# Altium footprint library PcbLib3.PcbLib: 6 footprints
Each footprint in its own frame and in the unit in brackets; x right, y up, seen from the top. Pads: shape width x height; smd on the part's side, far side on the other; paste and mask are expansions set on the pad; w line width, h text height; cw(c..) or ccw(c..) is an arc to the next point about the centre after c.
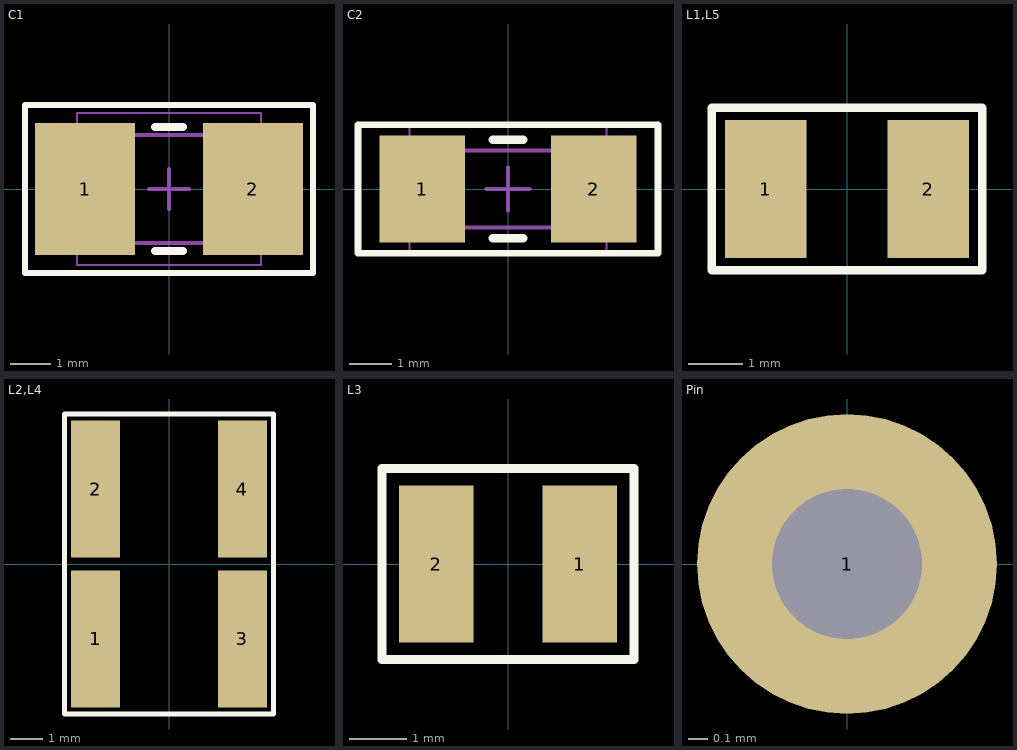
[diagram p0: the footprints below, top view; thin cyan lines are the x and y axes]

## C1 [mm] "Chip Capacitor, 2-Leads, Body 3,20x2,50mm, IPC Medium Density"
height 1.5
pads (2):
  rect 2.5x3.3 smd: 1(-2.1,0) 2(2.1,0)
Top Overlay:
  lines w0.154: -3.6,-2.1 -3.6,2.1 3.6,2.1 3.6,-2.1 -3.6,-2.1
  lines w0.2: -0.35,-1.55 0.35,-1.55 ; -0.35,1.55 0.35,1.55
Mechanical 13:
  lines w0.1: -1.7,-1.35 -1.7,1.35 1.7,1.35 1.7,-1.35 -1.7,-1.35
Mechanical 15:
  lines w0.05: -2.3,-1.9 -2.3,1.9 2.3,1.9 2.3,-1.9 -2.3,-1.9
  lines w0.1: -0.5,0 0.5,0 ; 0,-0.5 0,0.5
3D body: height 1.5, standoff 0, extent -1.2,-1.35 1.2,1.35
3D body: height 1.5, standoff 0, extent -1.7,-1.35 -1.2,1.35
3D body: height 1.5, standoff 0, extent 1.2,-1.35 1.7,1.35

## C2 [mm] "Chip Capacitor, 2-Leads, Body 3,20x1,60mm, IPC Medium Density"
height 1.5
pads (2):
  rect 2x2.5 smd: 1(-2,0) 2(2,0)
Top Overlay:
  lines w0.154: -3.5,-1.5 -3.5,1.5 3.5,1.5 3.5,-1.5 -3.5,-1.5
  lines w0.2: -0.35,-1.15 0.35,-1.15 ; -0.35,1.15 0.35,1.15
Mechanical 13:
  lines w0.1: -1.7,-0.9 1.7,-0.9 1.7,0.9 -1.7,0.9 -1.7,-0.9
Mechanical 15:
  lines w0.05: -2.3,-1.5 2.3,-1.5 2.3,1.5 -2.3,1.5 -2.3,-1.5
  lines w0.1: -0.5,0 0.5,0 ; 0,-0.5 0,0.5
3D body: height 1.5, standoff 0, extent 1.2,-0.9 1.7,0.9
3D body: height 1.5, standoff 0, extent -1.7,-0.9 -1.2,0.9
3D body: height 1.5, standoff 0, extent -1.2,-0.9 1.2,0.9

## L1,L5 [mm]
pads (2):
  rect 1.5x2.54 smd: 1(-1.5,0) 2(1.5,0)
Top Overlay:
  lines w0.154: -2.5,-1.5 2.5,-1.5 2.5,1.5 -2.5,1.5 -2.5,-1.5

## L2,L4 [mm]
pads (4):
  rect 1.5x4.2 smd: 1(-2.25,-2.3) 2(-2.25,2.3) 3(2.25,-2.3) 4(2.25,2.3)
Top Overlay:
  lines w0.154: -3.2,-4.6 -3.2,4.6 3.2,4.6 3.2,-4.6 -3.2,-4.6

## L3 [mm]
pads (2):
  rect 1.3x2.74 smd: 1(1.25,0) 2(-1.25,0)
Top Overlay:
  lines w0.154: -2.2,-1.67 -2.2,1.67 2.2,1.67 2.2,-1.67 -2.2,-1.67

## Pin [mil]
pads (1):
  round 60 hole 30: 1(0,0)